# EAGLE library part LM6144AIM (library nw2s)
OpAmpIC
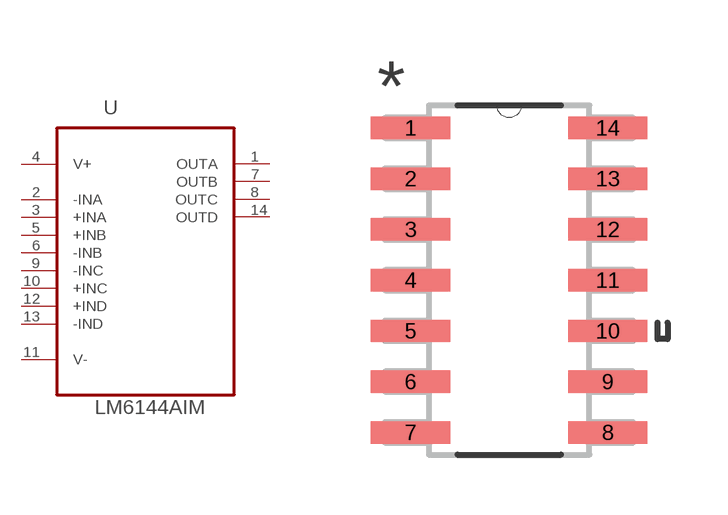
[diagram p26: symbol with the pads of SOIC127P600X175-14N; footprint SOIC127P600X175-14N]

Designator prefix U

## LM6144AIM (MPN: LM6144AIM; OC_FARNELL: -; OC_NEWARK: 07B6840; PACKAGE: SOIC-14; SUPPLIER: NationalSemiconductor)  [SOIC127P600X175-14N]
1  OUTA  out
2  -INA  in
3  +INA  in
4  V+  pwr
5  +INB  in
6  -INB  in
7  OUTB  out
8  OUTC  out
9  -INC  in
10  +INC  in
11  V-  pwr
12  +IND  in
13  -IND  in
14  OUTD  out

## Footprint SOIC127P600X175-14N (pad centres in mm)
smd 1.981 x 0.559: 1 -2.464,3.81; 2 -2.464,2.54; 3 -2.464,1.27; 4 -2.464,0; 5 -2.464,-1.27; 6 -2.464,-2.54; 7 -2.464,-3.81; 8 2.464,-3.81; 9 2.464,-2.54; 10 2.464,-1.27; 11 2.464,0; 12 2.464,1.27; 13 2.464,2.54; 14 2.464,3.81